# Altium schematic symbol library Mechanical.SchLib: 10 symbols
Pins are listed as number, name and electrical type; pins without a type are passive.

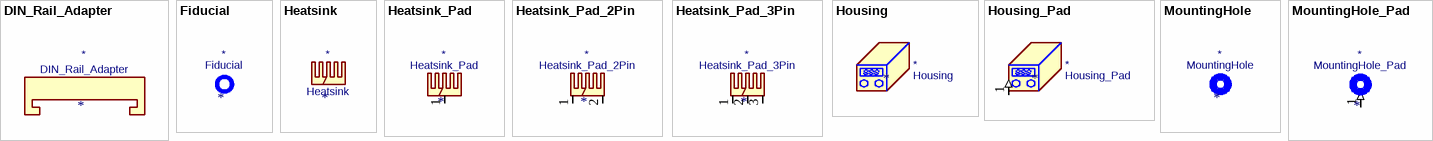
[diagram p0: symbols DIN_Rail_Adapter to MountingHole_Pad]

## DIN_Rail_Adapter
designator *  value DIN_Rail_Adapter
ki_keywords: Mounting holes, DIN rail adapter; ki_description: DIN Rail adapter universal, mounting holes without connection; ki_fp_filters: DINRailAdapter?3xM3* DINRailAdapter?2xM3*; Supplier: ~

## Fiducial
designator *  value Fiducial
ki_keywords: fiducial marker; ki_fp_filters: Fiducial*; Supplier: ~; ki_description: Fiducial Marker

## Heatsink
designator *  value Heatsink
ki_keywords: thermal heat temperature; ki_fp_filters: Heatsink_*; Supplier: ~; ki_description: Heatsink

## Heatsink_Pad
designator *  value Heatsink_Pad
ki_keywords: thermal heat temperature; ki_description: Heatsink with electrical connection, 1 pin; ki_fp_filters: Heatsink_*; Supplier: ~
pins: 1

## Heatsink_Pad_2Pin
designator *  value Heatsink_Pad_2Pin
ki_keywords: thermal heat temperature; ki_description: Heatsink with electrical connection, 2 pin; ki_fp_filters: Heatsink_*; Supplier: ~
pins: 1, 2

## Heatsink_Pad_3Pin
designator *  value Heatsink_Pad_3Pin
ki_keywords: thermal heat temperature; ki_description: Heatsink with electrical connection, 3 pin; ki_fp_filters: Heatsink_*; Supplier: ~
pins: 1, 2, 3

## Housing
designator *  value Housing
ki_keywords: housing enclosure; ki_fp_filters: Enclosure* Housing*; Supplier: ~; ki_description: Housing

## Housing_Pad
designator *  value Housing_Pad
ki_keywords: housing enclosure shield; ki_description: Housing with connection pin; Supplier: ~
pins: 1 PAD (in)

## MountingHole
designator *  value MountingHole
ki_keywords: mounting hole; ki_description: Mounting Hole without connection; ki_fp_filters: MountingHole*; Supplier: ~

## MountingHole_Pad
designator *  value MountingHole_Pad
ki_keywords: mounting hole; ki_description: Mounting Hole with connection; ki_fp_filters: MountingHole*Pad*; Supplier: ~
pins: 1 (in)